# Altium schematic symbol library PPPC161LFBN-RC.SchLib: 1 symbol
Pins are listed as number, name and electrical type; pins without a type are passive.

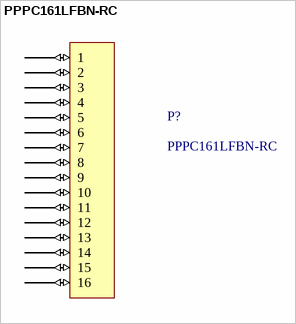
[diagram p0: symbol PPPC161LFBN-RC]

## PPPC161LFBN-RC
designator P?
pins: ?1 1 (io), ?2 2 (io), ?3 3 (io), ?4 4 (io), ?5 5 (io), ?6 6 (io), ?7 7 (io), ?8 8 (io), ?9 9 (io), ?10 10 (io), ?11 11 (io), ?12 12 (io), ?13 13 (io), ?14 14 (io), ?15 15 (io), ?16 16 (io)